# Altium schematic symbol library DF13A-12P-1.25H(51).SchLib: 1 symbol
Pins are listed as number, name and electrical type; pins without a type are passive.

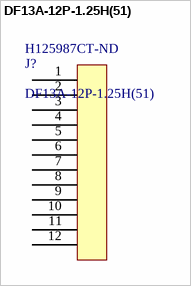
[diagram p0: symbol DF13A-12P-1.25H(51)]

## DF13A-12P-1.25H(51)
designator J?  Supplier Part Number 1: H125987CT-ND
12 pos DF13 right angle surface mount connector; Manufacturer: Hirose; Current Rating: 1A; Voltage Rating: 150V; Contact Resistance: 30mR; Number of Positions: 12; Pitch: 1.25mm; Supplier 1: Digi-Key; Manufacturer Part Number: DF13A-12P-1.25H(51); Stock 1: 878; Pricing 1: 1=1.69, 10=1.536, 100=1.3167, 500=1.09726 (USD); Contact Material: Brass,Copper Alloy; Contact Plating: Gold; Housing Color: Beige; Housing Material: Polyamide; Min Operating Temperature: -35°C; Max Operating Temperature: 85°C; Contact Gender: Male; Package Quantity: 1000; Number of Rows: 1; Packaging: Tape and Reel; Max Current Rating: 1A; Termination: Solder; Number of Contacts: 12; Max Voltage Rating (AC): 150V; Orientation: Right Angle; Length: 19.65mm; Depth: 6.5mm; Radiation Hardening: No; Lead Free: Lead Free; ComponentLink1URL: http://www.mouser.com/ds/2/185/DF13_catalog-939190.pdf?src-supplier=Mouser; ComponentLink1Description: http://www.mouser.com/ds/2/185/DF13_catalog-939190.pdf?src-supplier=Mouser; ComponentLink2URL: http://www.hirose.co.jp/cataloge_hp/en_DF13_20130411.pdf?src-supplier=Future+Electronics; ComponentLink2Description: http://www.hirose.co.jp/cataloge_hp/en_DF13_20130411.pdf?src-supplier=Future+Electronics; ComponentLink3URL: https://www.verical.com/server-webapp/html/getDatasheet?partID=429813&src-supplier=Verical; ComponentLink3Description: https://www.verical.com/server-webapp/html/getDatasheet?partID=429813&src-supplier=Verical
footprint DF13A-12P-1.25H(51)
pins: 1, 2, 3, 4, 5, 6, 7, 8, 9, 10, 11, 12